# Altium integrated library Vishay Roederstein Electrolytic Snap-In Pins Capacitor.IntLib: 936 symbols (part 2 of 16)
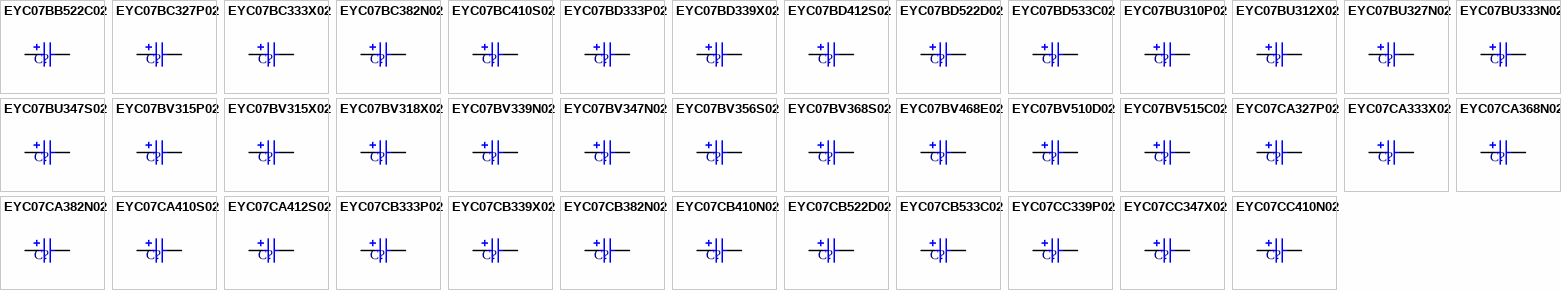
[diagram p24: symbols EYC07BB522C02 to EYC07CC410N02]

## EYC07BV356S02
designator C?
Aluminum Electrolytic Capacitor, Power Capacitor Style EYC, Snap-in 6mm Solder Pins: 560uF, 200V; PCB_Layout: Complies with Manufacturer's Recommendation.; DrillSize: Nominal, Complies with Manufacturer's Recommendation.; Published: 19-Mar-2004; DatasheetDocument: 26-Feb-2002; PackageReference: CAPPRS10-30X30; Publisher: Altium Limited; ComponentLink1Description: Manufacturer Link; ComponentLink1URL: http://www.vishay.com/; ComponentLink2Description: Datasheet; ComponentLink2URL: http://www.vishay.com/docs/25138/eyc.pdf; Value: 560uF
footprint CAPPRS10-30X30 (Capacitor, Electrolytic, Radial, Snap-In Pins; Body 30 x 30 mm (Dia.xH typ); Pin Spacing 10 mm (typ))
simulation model CAP (Capacitor)
signal-integrity model EYC07BV356S02
pins: 1, 2
1 alternate drawing of the same symbol

## EYC07BV368S02
designator C?
Aluminum Electrolytic Capacitor, Power Capacitor Style EYC, Snap-in 6mm Solder Pins: 680uF, 200V; PCB_Layout: Complies with Manufacturer's Recommendation.; DrillSize: Nominal, Complies with Manufacturer's Recommendation.; Published: 19-Mar-2004; DatasheetDocument: 26-Feb-2002; PackageReference: CAPPRS10-30X30; Publisher: Altium Limited; ComponentLink1Description: Manufacturer Link; ComponentLink1URL: http://www.vishay.com/; ComponentLink2Description: Datasheet; ComponentLink2URL: http://www.vishay.com/docs/25138/eyc.pdf; Value: 680uF
footprint CAPPRS10-30X30 (Capacitor, Electrolytic, Radial, Snap-In Pins; Body 30 x 30 mm (Dia.xH typ); Pin Spacing 10 mm (typ))
simulation model CAP (Capacitor)
signal-integrity model EYC07BV368S02
pins: 1, 2
1 alternate drawing of the same symbol

## EYC07BV468E02
designator C?
Aluminum Electrolytic Capacitor, Power Capacitor Style EYC, Snap-in 6mm Solder Pins: 6800uF, 25V; PCB_Layout: Complies with Manufacturer's Recommendation.; DrillSize: Nominal, Complies with Manufacturer's Recommendation.; Published: 19-Mar-2004; DatasheetDocument: 26-Feb-2002; PackageReference: CAPPRS10-30X30; Publisher: Altium Limited; ComponentLink1Description: Manufacturer Link; ComponentLink1URL: http://www.vishay.com/; ComponentLink2Description: Datasheet; ComponentLink2URL: http://www.vishay.com/docs/25138/eyc.pdf; Value: 6800uF
footprint CAPPRS10-30X30 (Capacitor, Electrolytic, Radial, Snap-In Pins; Body 30 x 30 mm (Dia.xH typ); Pin Spacing 10 mm (typ))
simulation model CAP (Capacitor)
signal-integrity model EYC07BV468E02
pins: 1, 2
1 alternate drawing of the same symbol

## EYC07BV510D02
designator C?
Aluminum Electrolytic Capacitor, Power Capacitor Style EYC, Snap-in 6mm Solder Pins: 10000uF, 16V; PCB_Layout: Complies with Manufacturer's Recommendation.; DrillSize: Nominal, Complies with Manufacturer's Recommendation.; Published: 19-Mar-2004; DatasheetDocument: 26-Feb-2002; PackageReference: CAPPRS10-30X30; Publisher: Altium Limited; ComponentLink1Description: Manufacturer Link; ComponentLink1URL: http://www.vishay.com/; ComponentLink2Description: Datasheet; ComponentLink2URL: http://www.vishay.com/docs/25138/eyc.pdf; Value: 10000uF
footprint CAPPRS10-30X30 (Capacitor, Electrolytic, Radial, Snap-In Pins; Body 30 x 30 mm (Dia.xH typ); Pin Spacing 10 mm (typ))
simulation model CAP (Capacitor)
signal-integrity model EYC07BV510D02
pins: 1, 2
1 alternate drawing of the same symbol

## EYC07BV515C02
designator C?
Aluminum Electrolytic Capacitor, Power Capacitor Style EYC, Snap-in 6mm Solder Pins: 15000uF, 10V; PCB_Layout: Complies with Manufacturer's Recommendation.; DrillSize: Nominal, Complies with Manufacturer's Recommendation.; Published: 19-Mar-2004; DatasheetDocument: 26-Feb-2002; PackageReference: CAPPRS10-30X30; Publisher: Altium Limited; ComponentLink1Description: Manufacturer Link; ComponentLink1URL: http://www.vishay.com/; ComponentLink2Description: Datasheet; ComponentLink2URL: http://www.vishay.com/docs/25138/eyc.pdf; Value: 15000uF
footprint CAPPRS10-30X30 (Capacitor, Electrolytic, Radial, Snap-In Pins; Body 30 x 30 mm (Dia.xH typ); Pin Spacing 10 mm (typ))
simulation model CAP (Capacitor)
signal-integrity model EYC07BV515C02
pins: 1, 2
1 alternate drawing of the same symbol

## EYC07CA327P02
designator C?
Aluminum Electrolytic Capacitor, Power Capacitor Style EYC, Snap-in 6mm Solder Pins: 270uF, 450V; PCB_Layout: Complies with Manufacturer's Recommendation.; DrillSize: Nominal, Complies with Manufacturer's Recommendation.; Published: 19-Mar-2004; DatasheetDocument: 26-Feb-2002; PackageReference: CAPPRS10-35X35; Publisher: Altium Limited; ComponentLink1Description: Manufacturer Link; ComponentLink1URL: http://www.vishay.com/; ComponentLink2Description: Datasheet; ComponentLink2URL: http://www.vishay.com/docs/25138/eyc.pdf; Value: 270uF
footprint CAPPRS10-35X35 (Capacitor, Electrolytic, Radial, Snap-In Pins; Body 35 x 35 mm (Dia.xH typ); Pin Spacing 10 mm (typ))
simulation model CAP (Capacitor)
signal-integrity model EYC07CA327P02
pins: 1, 2
1 alternate drawing of the same symbol

## EYC07CA333X02
designator C?
Aluminum Electrolytic Capacitor, Power Capacitor Style EYC, Snap-in 6mm Solder Pins: 330uF, 400V; PCB_Layout: Complies with Manufacturer's Recommendation.; DrillSize: Nominal, Complies with Manufacturer's Recommendation.; Published: 19-Mar-2004; DatasheetDocument: 26-Feb-2002; PackageReference: CAPPRS10-35X35; Publisher: Altium Limited; ComponentLink1Description: Manufacturer Link; ComponentLink1URL: http://www.vishay.com/; ComponentLink2Description: Datasheet; ComponentLink2URL: http://www.vishay.com/docs/25138/eyc.pdf; Value: 330uF
footprint CAPPRS10-35X35 (Capacitor, Electrolytic, Radial, Snap-In Pins; Body 35 x 35 mm (Dia.xH typ); Pin Spacing 10 mm (typ))
simulation model CAP (Capacitor)
signal-integrity model EYC07CA333X02
pins: 1, 2
1 alternate drawing of the same symbol

## EYC07CA368N02
designator C?
Aluminum Electrolytic Capacitor, Power Capacitor Style EYC, Snap-in 6mm Solder Pins: 680uF, 250V; PCB_Layout: Complies with Manufacturer's Recommendation.; DrillSize: Nominal, Complies with Manufacturer's Recommendation.; Published: 19-Mar-2004; DatasheetDocument: 26-Feb-2002; PackageReference: CAPPRS10-35X35; Publisher: Altium Limited; ComponentLink1Description: Manufacturer Link; ComponentLink1URL: http://www.vishay.com/; ComponentLink2Description: Datasheet; ComponentLink2URL: http://www.vishay.com/docs/25138/eyc.pdf; Value: 680uF
footprint CAPPRS10-35X35 (Capacitor, Electrolytic, Radial, Snap-In Pins; Body 35 x 35 mm (Dia.xH typ); Pin Spacing 10 mm (typ))
simulation model CAP (Capacitor)
signal-integrity model EYC07CA368N02
pins: 1, 2
1 alternate drawing of the same symbol

## EYC07CA382N02
designator C?
Aluminum Electrolytic Capacitor, Power Capacitor Style EYC, Snap-in 6mm Solder Pins: 820uF, 250V; PCB_Layout: Complies with Manufacturer's Recommendation.; DrillSize: Nominal, Complies with Manufacturer's Recommendation.; Published: 19-Mar-2004; DatasheetDocument: 26-Feb-2002; PackageReference: CAPPRS10-35X35; Publisher: Altium Limited; ComponentLink1Description: Manufacturer Link; ComponentLink1URL: http://www.vishay.com/; ComponentLink2Description: Datasheet; ComponentLink2URL: http://www.vishay.com/docs/25138/eyc.pdf; Value: 820uF
footprint CAPPRS10-35X35 (Capacitor, Electrolytic, Radial, Snap-In Pins; Body 35 x 35 mm (Dia.xH typ); Pin Spacing 10 mm (typ))
simulation model CAP (Capacitor)
signal-integrity model EYC07CA382N02
pins: 1, 2
1 alternate drawing of the same symbol

## EYC07CA410S02
designator C?
Aluminum Electrolytic Capacitor, Power Capacitor Style EYC, Snap-in 6mm Solder Pins: 1000uF, 200V; PCB_Layout: Complies with Manufacturer's Recommendation.; DrillSize: Nominal, Complies with Manufacturer's Recommendation.; Published: 19-Mar-2004; DatasheetDocument: 26-Feb-2002; PackageReference: CAPPRS10-35X35; Publisher: Altium Limited; ComponentLink1Description: Manufacturer Link; ComponentLink1URL: http://www.vishay.com/; ComponentLink2Description: Datasheet; ComponentLink2URL: http://www.vishay.com/docs/25138/eyc.pdf; Value: 1000uF
footprint CAPPRS10-35X35 (Capacitor, Electrolytic, Radial, Snap-In Pins; Body 35 x 35 mm (Dia.xH typ); Pin Spacing 10 mm (typ))
simulation model CAP (Capacitor)
signal-integrity model EYC07CA410S02
pins: 1, 2
1 alternate drawing of the same symbol

## EYC07CA412S02
designator C?
Aluminum Electrolytic Capacitor, Power Capacitor Style EYC, Snap-in 6mm Solder Pins: 1200uF, 200V; PCB_Layout: Complies with Manufacturer's Recommendation.; DrillSize: Nominal, Complies with Manufacturer's Recommendation.; Published: 19-Mar-2004; DatasheetDocument: 26-Feb-2002; PackageReference: CAPPRS10-35X35; Publisher: Altium Limited; ComponentLink1Description: Manufacturer Link; ComponentLink1URL: http://www.vishay.com/; ComponentLink2Description: Datasheet; ComponentLink2URL: http://www.vishay.com/docs/25138/eyc.pdf; Value: 1200uF
footprint CAPPRS10-35X35 (Capacitor, Electrolytic, Radial, Snap-In Pins; Body 35 x 35 mm (Dia.xH typ); Pin Spacing 10 mm (typ))
simulation model CAP (Capacitor)
signal-integrity model EYC07CA412S02
pins: 1, 2
1 alternate drawing of the same symbol

## EYC07CB333P02
designator C?
Aluminum Electrolytic Capacitor, Power Capacitor Style EYC, Snap-in 6mm Solder Pins: 330uF, 450V; PCB_Layout: Complies with Manufacturer's Recommendation.; DrillSize: Nominal, Complies with Manufacturer's Recommendation.; Published: 19-Mar-2004; DatasheetDocument: 26-Feb-2002; PackageReference: CAPPRS10-35X40; Publisher: Altium Limited; ComponentLink1Description: Manufacturer Link; ComponentLink1URL: http://www.vishay.com/; ComponentLink2Description: Datasheet; ComponentLink2URL: http://www.vishay.com/docs/25138/eyc.pdf; Value: 330uF
footprint CAPPRS10-35X40 (Capacitor, Electrolytic, Radial, Snap-In Pins; Body 35 x 40 mm (Dia.xH typ); Pin Spacing 10 mm (typ))
simulation model CAP (Capacitor)
signal-integrity model EYC07CB333P02
pins: 1, 2
1 alternate drawing of the same symbol

## EYC07CB339X02
designator C?
Aluminum Electrolytic Capacitor, Power Capacitor Style EYC, Snap-in 6mm Solder Pins: 390uF, 400V; PCB_Layout: Complies with Manufacturer's Recommendation.; DrillSize: Nominal, Complies with Manufacturer's Recommendation.; Published: 19-Mar-2004; DatasheetDocument: 26-Feb-2002; PackageReference: CAPPRS10-35X40; Publisher: Altium Limited; ComponentLink1Description: Manufacturer Link; ComponentLink1URL: http://www.vishay.com/; ComponentLink2Description: Datasheet; ComponentLink2URL: http://www.vishay.com/docs/25138/eyc.pdf; Value: 390uF
footprint CAPPRS10-35X40 (Capacitor, Electrolytic, Radial, Snap-In Pins; Body 35 x 40 mm (Dia.xH typ); Pin Spacing 10 mm (typ))
simulation model CAP (Capacitor)
signal-integrity model EYC07CB339X02
pins: 1, 2
1 alternate drawing of the same symbol

## EYC07CB382N02
designator C?
Aluminum Electrolytic Capacitor, Power Capacitor Style EYC, Snap-in 6mm Solder Pins: 820uF, 250V; PCB_Layout: Complies with Manufacturer's Recommendation.; DrillSize: Nominal, Complies with Manufacturer's Recommendation.; Published: 19-Mar-2004; DatasheetDocument: 26-Feb-2002; PackageReference: CAPPRS10-35X40; Publisher: Altium Limited; ComponentLink1Description: Manufacturer Link; ComponentLink1URL: http://www.vishay.com/; ComponentLink2Description: Datasheet; ComponentLink2URL: http://www.vishay.com/docs/25138/eyc.pdf; Value: 820uF
footprint CAPPRS10-35X40 (Capacitor, Electrolytic, Radial, Snap-In Pins; Body 35 x 40 mm (Dia.xH typ); Pin Spacing 10 mm (typ))
simulation model CAP (Capacitor)
signal-integrity model EYC07CB382N02
pins: 1, 2
1 alternate drawing of the same symbol

## EYC07CB410N02
designator C?
Aluminum Electrolytic Capacitor, Power Capacitor Style EYC, Snap-in 6mm Solder Pins: 1000uF, 250V; PCB_Layout: Complies with Manufacturer's Recommendation.; DrillSize: Nominal, Complies with Manufacturer's Recommendation.; Published: 19-Mar-2004; DatasheetDocument: 26-Feb-2002; PackageReference: CAPPRS10-35X40; Publisher: Altium Limited; ComponentLink1Description: Manufacturer Link; ComponentLink1URL: http://www.vishay.com/; ComponentLink2Description: Datasheet; ComponentLink2URL: http://www.vishay.com/docs/25138/eyc.pdf; Value: 1000uF
footprint CAPPRS10-35X40 (Capacitor, Electrolytic, Radial, Snap-In Pins; Body 35 x 40 mm (Dia.xH typ); Pin Spacing 10 mm (typ))
simulation model CAP (Capacitor)
signal-integrity model EYC07CB410N02
pins: 1, 2
1 alternate drawing of the same symbol

## EYC07CB522D02
designator C?
Aluminum Electrolytic Capacitor, Power Capacitor Style EYC, Snap-in 6mm Solder Pins: 22000uF, 16V; PCB_Layout: Complies with Manufacturer's Recommendation.; DrillSize: Nominal, Complies with Manufacturer's Recommendation.; Published: 19-Mar-2004; DatasheetDocument: 26-Feb-2002; PackageReference: CAPPRS10-35X40; Publisher: Altium Limited; ComponentLink1Description: Manufacturer Link; ComponentLink1URL: http://www.vishay.com/; ComponentLink2Description: Datasheet; ComponentLink2URL: http://www.vishay.com/docs/25138/eyc.pdf; Value: 22000uF
footprint CAPPRS10-35X40 (Capacitor, Electrolytic, Radial, Snap-In Pins; Body 35 x 40 mm (Dia.xH typ); Pin Spacing 10 mm (typ))
simulation model CAP (Capacitor)
signal-integrity model EYC07CB522D02
pins: 1, 2
1 alternate drawing of the same symbol

## EYC07CB533C02
designator C?
Aluminum Electrolytic Capacitor, Power Capacitor Style EYC, Snap-in 6mm Solder Pins: 33000uF, 10V; PCB_Layout: Complies with Manufacturer's Recommendation.; DrillSize: Nominal, Complies with Manufacturer's Recommendation.; Published: 19-Mar-2004; DatasheetDocument: 26-Feb-2002; PackageReference: CAPPRS10-35X40; Publisher: Altium Limited; ComponentLink1Description: Manufacturer Link; ComponentLink1URL: http://www.vishay.com/; ComponentLink2Description: Datasheet; ComponentLink2URL: http://www.vishay.com/docs/25138/eyc.pdf; Value: 33000uF
footprint CAPPRS10-35X40 (Capacitor, Electrolytic, Radial, Snap-In Pins; Body 35 x 40 mm (Dia.xH typ); Pin Spacing 10 mm (typ))
simulation model CAP (Capacitor)
signal-integrity model EYC07CB533C02
pins: 1, 2
1 alternate drawing of the same symbol

## EYC07CC339P02
designator C?
Aluminum Electrolytic Capacitor, Power Capacitor Style EYC, Snap-in 6mm Solder Pins: 390uF, 450V; PCB_Layout: Complies with Manufacturer's Recommendation.; DrillSize: Nominal, Complies with Manufacturer's Recommendation.; Published: 19-Mar-2004; DatasheetDocument: 26-Feb-2002; PackageReference: CAPPRS10-35X45; Publisher: Altium Limited; ComponentLink1Description: Manufacturer Link; ComponentLink1URL: http://www.vishay.com/; ComponentLink2Description: Datasheet; ComponentLink2URL: http://www.vishay.com/docs/25138/eyc.pdf; Value: 390uF
footprint CAPPRS10-35X45 (Capacitor, Electrolytic, Radial, Snap-In Pins; Body 35 x 45 mm (Dia.xH typ); Pin Spacing 10 mm (typ))
simulation model CAP (Capacitor)
signal-integrity model EYC07CC339P02
pins: 1, 2
1 alternate drawing of the same symbol

## EYC07CC347X02
designator C?
Aluminum Electrolytic Capacitor, Power Capacitor Style EYC, Snap-in 6mm Solder Pins: 470uF, 400V; PCB_Layout: Complies with Manufacturer's Recommendation.; DrillSize: Nominal, Complies with Manufacturer's Recommendation.; Published: 19-Mar-2004; DatasheetDocument: 26-Feb-2002; PackageReference: CAPPRS10-35X45; Publisher: Altium Limited; ComponentLink1Description: Manufacturer Link; ComponentLink1URL: http://www.vishay.com/; ComponentLink2Description: Datasheet; ComponentLink2URL: http://www.vishay.com/docs/25138/eyc.pdf; Value: 470uF
footprint CAPPRS10-35X45 (Capacitor, Electrolytic, Radial, Snap-In Pins; Body 35 x 45 mm (Dia.xH typ); Pin Spacing 10 mm (typ))
simulation model CAP (Capacitor)
signal-integrity model EYC07CC347X02
pins: 1, 2
1 alternate drawing of the same symbol

## EYC07CC410N02
designator C?
Aluminum Electrolytic Capacitor, Power Capacitor Style EYC, Snap-in 6mm Solder Pins: 1000uF, 250V; PCB_Layout: Complies with Manufacturer's Recommendation.; DrillSize: Nominal, Complies with Manufacturer's Recommendation.; Published: 19-Mar-2004; DatasheetDocument: 26-Feb-2002; PackageReference: CAPPRS10-35X45; Publisher: Altium Limited; ComponentLink1Description: Manufacturer Link; ComponentLink1URL: http://www.vishay.com/; ComponentLink2Description: Datasheet; ComponentLink2URL: http://www.vishay.com/docs/25138/eyc.pdf; Value: 1000uF
footprint CAPPRS10-35X45 (Capacitor, Electrolytic, Radial, Snap-In Pins; Body 35 x 45 mm (Dia.xH typ); Pin Spacing 10 mm (typ))
simulation model CAP (Capacitor)
signal-integrity model EYC07CC410N02
pins: 1, 2
1 alternate drawing of the same symbol

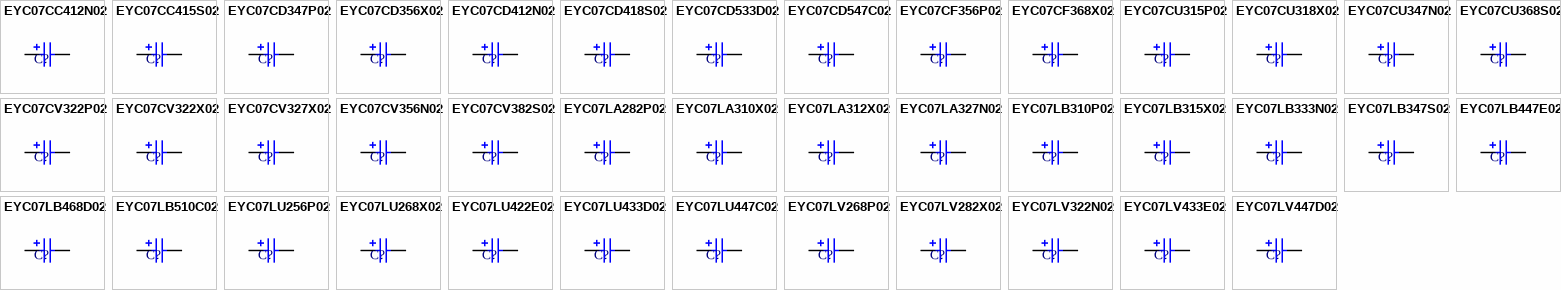
[diagram p2: symbols EYC07CC412N02 to EYC07LV447D02]

## EYC07CC412N02
designator C?
Aluminum Electrolytic Capacitor, Power Capacitor Style EYC, Snap-in 6mm Solder Pins: 1200uF, 250V; PCB_Layout: Complies with Manufacturer's Recommendation.; DrillSize: Nominal, Complies with Manufacturer's Recommendation.; Published: 19-Mar-2004; DatasheetDocument: 26-Feb-2002; PackageReference: CAPPRS10-35X45; Publisher: Altium Limited; ComponentLink1Description: Manufacturer Link; ComponentLink1URL: http://www.vishay.com/; ComponentLink2Description: Datasheet; ComponentLink2URL: http://www.vishay.com/docs/25138/eyc.pdf; Value: 1200uF
footprint CAPPRS10-35X45 (Capacitor, Electrolytic, Radial, Snap-In Pins; Body 35 x 45 mm (Dia.xH typ); Pin Spacing 10 mm (typ))
simulation model CAP (Capacitor)
signal-integrity model EYC07CC412N02
pins: 1, 2
1 alternate drawing of the same symbol

## EYC07CC415S02
designator C?
Aluminum Electrolytic Capacitor, Power Capacitor Style EYC, Snap-in 6mm Solder Pins: 1500uF, 200V; PCB_Layout: Complies with Manufacturer's Recommendation.; DrillSize: Nominal, Complies with Manufacturer's Recommendation.; Published: 19-Mar-2004; DatasheetDocument: 26-Feb-2002; PackageReference: CAPPRS10-35X45; Publisher: Altium Limited; ComponentLink1Description: Manufacturer Link; ComponentLink1URL: http://www.vishay.com/; ComponentLink2Description: Datasheet; ComponentLink2URL: http://www.vishay.com/docs/25138/eyc.pdf; Value: 1500uF
footprint CAPPRS10-35X45 (Capacitor, Electrolytic, Radial, Snap-In Pins; Body 35 x 45 mm (Dia.xH typ); Pin Spacing 10 mm (typ))
simulation model CAP (Capacitor)
signal-integrity model EYC07CC415S02
pins: 1, 2
1 alternate drawing of the same symbol

## EYC07CD347P02
designator C?
Aluminum Electrolytic Capacitor, Power Capacitor Style EYC, Snap-in 6mm Solder Pins: 470uF, 450V; PCB_Layout: Complies with Manufacturer's Recommendation.; DrillSize: Nominal, Complies with Manufacturer's Recommendation.; Published: 19-Mar-2004; DatasheetDocument: 26-Feb-2002; PackageReference: CAPPRS10-35X50; Publisher: Altium Limited; ComponentLink1Description: Manufacturer Link; ComponentLink1URL: http://www.vishay.com/; ComponentLink2Description: Datasheet; ComponentLink2URL: http://www.vishay.com/docs/25138/eyc.pdf; Value: 470uF
footprint CAPPRS10-35X50 (Capacitor, Electrolytic, Radial, Snap-In Pins; Body 35 x 50 mm (Dia.xH typ); Pin Spacing 10 mm (typ))
simulation model CAP (Capacitor)
signal-integrity model EYC07CD347P02
pins: 1, 2
1 alternate drawing of the same symbol

## EYC07CD356X02
designator C?
Aluminum Electrolytic Capacitor, Power Capacitor Style EYC, Snap-in 6mm Solder Pins: 560uF, 400V; PCB_Layout: Complies with Manufacturer's Recommendation.; DrillSize: Nominal, Complies with Manufacturer's Recommendation.; Published: 19-Mar-2004; DatasheetDocument: 26-Feb-2002; PackageReference: CAPPRS10-35X50; Publisher: Altium Limited; ComponentLink1Description: Manufacturer Link; ComponentLink1URL: http://www.vishay.com/; ComponentLink2Description: Datasheet; ComponentLink2URL: http://www.vishay.com/docs/25138/eyc.pdf; Value: 560uF
footprint CAPPRS10-35X50 (Capacitor, Electrolytic, Radial, Snap-In Pins; Body 35 x 50 mm (Dia.xH typ); Pin Spacing 10 mm (typ))
simulation model CAP (Capacitor)
signal-integrity model EYC07CD356X02
pins: 1, 2
1 alternate drawing of the same symbol

## EYC07CD412N02
designator C?
Aluminum Electrolytic Capacitor, Power Capacitor Style EYC, Snap-in 6mm Solder Pins: 1200uF, 250V; PCB_Layout: Complies with Manufacturer's Recommendation.; DrillSize: Nominal, Complies with Manufacturer's Recommendation.; Published: 19-Mar-2004; DatasheetDocument: 26-Feb-2002; PackageReference: CAPPRS10-35X50; Publisher: Altium Limited; ComponentLink1Description: Manufacturer Link; ComponentLink1URL: http://www.vishay.com/; ComponentLink2Description: Datasheet; ComponentLink2URL: http://www.vishay.com/docs/25138/eyc.pdf; Value: 1200uF
footprint CAPPRS10-35X50 (Capacitor, Electrolytic, Radial, Snap-In Pins; Body 35 x 50 mm (Dia.xH typ); Pin Spacing 10 mm (typ))
simulation model CAP (Capacitor)
signal-integrity model EYC07CD412N02
pins: 1, 2
1 alternate drawing of the same symbol

## EYC07CD418S02
designator C?
Aluminum Electrolytic Capacitor, Power Capacitor Style EYC, Snap-in 6mm Solder Pins: 1800uF, 200V; PCB_Layout: Complies with Manufacturer's Recommendation.; DrillSize: Nominal, Complies with Manufacturer's Recommendation.; Published: 19-Mar-2004; DatasheetDocument: 26-Feb-2002; PackageReference: CAPPRS10-35X50; Publisher: Altium Limited; ComponentLink1Description: Manufacturer Link; ComponentLink1URL: http://www.vishay.com/; ComponentLink2Description: Datasheet; ComponentLink2URL: http://www.vishay.com/docs/25138/eyc.pdf; Value: 1800uF
footprint CAPPRS10-35X50 (Capacitor, Electrolytic, Radial, Snap-In Pins; Body 35 x 50 mm (Dia.xH typ); Pin Spacing 10 mm (typ))
simulation model CAP (Capacitor)
signal-integrity model EYC07CD418S02
pins: 1, 2
1 alternate drawing of the same symbol

## EYC07CD533D02
designator C?
Aluminum Electrolytic Capacitor, Power Capacitor Style EYC, Snap-in 6mm Solder Pins: 33000uF, 16V; PCB_Layout: Complies with Manufacturer's Recommendation.; DrillSize: Nominal, Complies with Manufacturer's Recommendation.; Published: 19-Mar-2004; DatasheetDocument: 26-Feb-2002; PackageReference: CAPPRS10-35X50; Publisher: Altium Limited; ComponentLink1Description: Manufacturer Link; ComponentLink1URL: http://www.vishay.com/; ComponentLink2Description: Datasheet; ComponentLink2URL: http://www.vishay.com/docs/25138/eyc.pdf; Value: 33000uF
footprint CAPPRS10-35X50 (Capacitor, Electrolytic, Radial, Snap-In Pins; Body 35 x 50 mm (Dia.xH typ); Pin Spacing 10 mm (typ))
simulation model CAP (Capacitor)
signal-integrity model EYC07CD533D02
pins: 1, 2
1 alternate drawing of the same symbol

## EYC07CD547C02
designator C?
Aluminum Electrolytic Capacitor, Power Capacitor Style EYC, Snap-in 6mm Solder Pins: 47000uF, 10V; PCB_Layout: Complies with Manufacturer's Recommendation.; DrillSize: Nominal, Complies with Manufacturer's Recommendation.; Published: 19-Mar-2004; DatasheetDocument: 26-Feb-2002; PackageReference: CAPPRS10-35X50; Publisher: Altium Limited; ComponentLink1Description: Manufacturer Link; ComponentLink1URL: http://www.vishay.com/; ComponentLink2Description: Datasheet; ComponentLink2URL: http://www.vishay.com/docs/25138/eyc.pdf; Value: 47000uF
footprint CAPPRS10-35X50 (Capacitor, Electrolytic, Radial, Snap-In Pins; Body 35 x 50 mm (Dia.xH typ); Pin Spacing 10 mm (typ))
simulation model CAP (Capacitor)
signal-integrity model EYC07CD547C02
pins: 1, 2
1 alternate drawing of the same symbol

## EYC07CF356P02
designator C?
Aluminum Electrolytic Capacitor, Power Capacitor Style EYC, Snap-in 6mm Solder Pins: 560uF, 450V; PCB_Layout: Complies with Manufacturer's Recommendation.; DrillSize: Nominal, Complies with Manufacturer's Recommendation.; Published: 19-Mar-2004; DatasheetDocument: 26-Feb-2002; PackageReference: CAPPRS10-35X60; Publisher: Altium Limited; ComponentLink1Description: Manufacturer Link; ComponentLink1URL: http://www.vishay.com/; ComponentLink2Description: Datasheet; ComponentLink2URL: http://www.vishay.com/docs/25138/eyc.pdf; Value: 560uF
footprint CAPPRS10-35X60 (Capacitor, Electrolytic, Radial, Snap-In Pins; Body 35 x 60 mm (Dia.xH typ); Pin Spacing 10 mm (typ))
simulation model CAP (Capacitor)
signal-integrity model EYC07CF356P02
pins: 1, 2
1 alternate drawing of the same symbol

## EYC07CF368X02
designator C?
Aluminum Electrolytic Capacitor, Power Capacitor Style EYC, Snap-in 6mm Solder Pins: 680uF, 400V; PCB_Layout: Complies with Manufacturer's Recommendation.; DrillSize: Nominal, Complies with Manufacturer's Recommendation.; Published: 19-Mar-2004; DatasheetDocument: 26-Feb-2002; PackageReference: CAPPRS10-35X60; Publisher: Altium Limited; ComponentLink1Description: Manufacturer Link; ComponentLink1URL: http://www.vishay.com/; ComponentLink2Description: Datasheet; ComponentLink2URL: http://www.vishay.com/docs/25138/eyc.pdf; Value: 680uF
footprint CAPPRS10-35X60 (Capacitor, Electrolytic, Radial, Snap-In Pins; Body 35 x 60 mm (Dia.xH typ); Pin Spacing 10 mm (typ))
simulation model CAP (Capacitor)
signal-integrity model EYC07CF368X02
pins: 1, 2
1 alternate drawing of the same symbol

## EYC07CU315P02
designator C?
Aluminum Electrolytic Capacitor, Power Capacitor Style EYC, Snap-in 6mm Solder Pins: 150uF, 450V; PCB_Layout: Complies with Manufacturer's Recommendation.; DrillSize: Nominal, Complies with Manufacturer's Recommendation.; Published: 19-Mar-2004; DatasheetDocument: 26-Feb-2002; PackageReference: CAPPRS10-35X25; Publisher: Altium Limited; ComponentLink1Description: Manufacturer Link; ComponentLink1URL: http://www.vishay.com/; ComponentLink2Description: Datasheet; ComponentLink2URL: http://www.vishay.com/docs/25138/eyc.pdf; Value: 150uF
footprint CAPPRS10-35X25 (Capacitor, Electrolytic, Radial, Snap-In Pins; Body 35 x 25 mm (Dia.xH typ); Pin Spacing 10 mm (typ))
simulation model CAP (Capacitor)
signal-integrity model EYC07CU315P02
pins: 1, 2
1 alternate drawing of the same symbol

## EYC07CU318X02
designator C?
Aluminum Electrolytic Capacitor, Power Capacitor Style EYC, Snap-in 6mm Solder Pins: 180uF, 400V; PCB_Layout: Complies with Manufacturer's Recommendation.; DrillSize: Nominal, Complies with Manufacturer's Recommendation.; Published: 19-Mar-2004; DatasheetDocument: 26-Feb-2002; PackageReference: CAPPRS10-35X25; Publisher: Altium Limited; ComponentLink1Description: Manufacturer Link; ComponentLink1URL: http://www.vishay.com/; ComponentLink2Description: Datasheet; ComponentLink2URL: http://www.vishay.com/docs/25138/eyc.pdf; Value: 180uF
footprint CAPPRS10-35X25 (Capacitor, Electrolytic, Radial, Snap-In Pins; Body 35 x 25 mm (Dia.xH typ); Pin Spacing 10 mm (typ))
simulation model CAP (Capacitor)
signal-integrity model EYC07CU318X02
pins: 1, 2
1 alternate drawing of the same symbol

## EYC07CU347N02
designator C?
Aluminum Electrolytic Capacitor, Power Capacitor Style EYC, Snap-in 6mm Solder Pins: 470uF, 250V; PCB_Layout: Complies with Manufacturer's Recommendation.; DrillSize: Nominal, Complies with Manufacturer's Recommendation.; Published: 19-Mar-2004; DatasheetDocument: 26-Feb-2002; PackageReference: CAPPRS10-35X25; Publisher: Altium Limited; ComponentLink1Description: Manufacturer Link; ComponentLink1URL: http://www.vishay.com/; ComponentLink2Description: Datasheet; ComponentLink2URL: http://www.vishay.com/docs/25138/eyc.pdf; Value: 470uF
footprint CAPPRS10-35X25 (Capacitor, Electrolytic, Radial, Snap-In Pins; Body 35 x 25 mm (Dia.xH typ); Pin Spacing 10 mm (typ))
simulation model CAP (Capacitor)
signal-integrity model EYC07CU347N02
pins: 1, 2
1 alternate drawing of the same symbol

## EYC07CU368S02
designator C?
Aluminum Electrolytic Capacitor, Power Capacitor Style EYC, Snap-in 6mm Solder Pins: 680uF, 200V; PCB_Layout: Complies with Manufacturer's Recommendation.; DrillSize: Nominal, Complies with Manufacturer's Recommendation.; Published: 19-Mar-2004; DatasheetDocument: 26-Feb-2002; PackageReference: CAPPRS10-35X25; Publisher: Altium Limited; ComponentLink1Description: Manufacturer Link; ComponentLink1URL: http://www.vishay.com/; ComponentLink2Description: Datasheet; ComponentLink2URL: http://www.vishay.com/docs/25138/eyc.pdf; Value: 680uF
footprint CAPPRS10-35X25 (Capacitor, Electrolytic, Radial, Snap-In Pins; Body 35 x 25 mm (Dia.xH typ); Pin Spacing 10 mm (typ))
simulation model CAP (Capacitor)
signal-integrity model EYC07CU368S02
pins: 1, 2
1 alternate drawing of the same symbol

## EYC07CV322P02
designator C?
Aluminum Electrolytic Capacitor, Power Capacitor Style EYC, Snap-in 6mm Solder Pins: 220uF, 450V; PCB_Layout: Complies with Manufacturer's Recommendation.; DrillSize: Nominal, Complies with Manufacturer's Recommendation.; Published: 19-Mar-2004; DatasheetDocument: 26-Feb-2002; PackageReference: CAPPRS10-35X30; Publisher: Altium Limited; ComponentLink1Description: Manufacturer Link; ComponentLink1URL: http://www.vishay.com/; ComponentLink2Description: Datasheet; ComponentLink2URL: http://www.vishay.com/docs/25138/eyc.pdf; Value: 220uF
footprint CAPPRS10-35X30 (Capacitor, Electrolytic, Radial, Snap-In Pins; Body 35 x 30 mm (Dia.xH typ); Pin Spacing 10 mm (typ))
simulation model CAP (Capacitor)
signal-integrity model EYC07CV322P02
pins: 1, 2
1 alternate drawing of the same symbol

## EYC07CV322X02
designator C?
Aluminum Electrolytic Capacitor, Power Capacitor Style EYC, Snap-in 6mm Solder Pins: 220uF, 400V; PCB_Layout: Complies with Manufacturer's Recommendation.; DrillSize: Nominal, Complies with Manufacturer's Recommendation.; Published: 19-Mar-2004; DatasheetDocument: 26-Feb-2002; PackageReference: CAPPRS10-35X30; Publisher: Altium Limited; ComponentLink1Description: Manufacturer Link; ComponentLink1URL: http://www.vishay.com/; ComponentLink2Description: Datasheet; ComponentLink2URL: http://www.vishay.com/docs/25138/eyc.pdf; Value: 220uF
footprint CAPPRS10-35X30 (Capacitor, Electrolytic, Radial, Snap-In Pins; Body 35 x 30 mm (Dia.xH typ); Pin Spacing 10 mm (typ))
simulation model CAP (Capacitor)
signal-integrity model EYC07CV322X02
pins: 1, 2
1 alternate drawing of the same symbol

## EYC07CV327X02
designator C?
Aluminum Electrolytic Capacitor, Power Capacitor Style EYC, Snap-in 6mm Solder Pins: 270uF, 400V; PCB_Layout: Complies with Manufacturer's Recommendation.; DrillSize: Nominal, Complies with Manufacturer's Recommendation.; Published: 19-Mar-2004; DatasheetDocument: 26-Feb-2002; PackageReference: CAPPRS10-35X30; Publisher: Altium Limited; ComponentLink1Description: Manufacturer Link; ComponentLink1URL: http://www.vishay.com/; ComponentLink2Description: Datasheet; ComponentLink2URL: http://www.vishay.com/docs/25138/eyc.pdf; Value: 270uF
footprint CAPPRS10-35X30 (Capacitor, Electrolytic, Radial, Snap-In Pins; Body 35 x 30 mm (Dia.xH typ); Pin Spacing 10 mm (typ))
simulation model CAP (Capacitor)
signal-integrity model EYC07CV327X02
pins: 1, 2
1 alternate drawing of the same symbol

## EYC07CV356N02
designator C?
Aluminum Electrolytic Capacitor, Power Capacitor Style EYC, Snap-in 6mm Solder Pins: 560uF, 250V; PCB_Layout: Complies with Manufacturer's Recommendation.; DrillSize: Nominal, Complies with Manufacturer's Recommendation.; Published: 19-Mar-2004; DatasheetDocument: 26-Feb-2002; PackageReference: CAPPRS10-35X30; Publisher: Altium Limited; ComponentLink1Description: Manufacturer Link; ComponentLink1URL: http://www.vishay.com/; ComponentLink2Description: Datasheet; ComponentLink2URL: http://www.vishay.com/docs/25138/eyc.pdf; Value: 560uF
footprint CAPPRS10-35X30 (Capacitor, Electrolytic, Radial, Snap-In Pins; Body 35 x 30 mm (Dia.xH typ); Pin Spacing 10 mm (typ))
simulation model CAP (Capacitor)
signal-integrity model EYC07CV356N02
pins: 1, 2
1 alternate drawing of the same symbol

## EYC07CV382S02
designator C?
Aluminum Electrolytic Capacitor, Power Capacitor Style EYC, Snap-in 6mm Solder Pins: 820uF, 200V; PCB_Layout: Complies with Manufacturer's Recommendation.; DrillSize: Nominal, Complies with Manufacturer's Recommendation.; Published: 19-Mar-2004; DatasheetDocument: 26-Feb-2002; PackageReference: CAPPRS10-35X30; Publisher: Altium Limited; ComponentLink1Description: Manufacturer Link; ComponentLink1URL: http://www.vishay.com/; ComponentLink2Description: Datasheet; ComponentLink2URL: http://www.vishay.com/docs/25138/eyc.pdf; Value: 820uF
footprint CAPPRS10-35X30 (Capacitor, Electrolytic, Radial, Snap-In Pins; Body 35 x 30 mm (Dia.xH typ); Pin Spacing 10 mm (typ))
simulation model CAP (Capacitor)
signal-integrity model EYC07CV382S02
pins: 1, 2
1 alternate drawing of the same symbol

## EYC07LA282P02
designator C?
Aluminum Electrolytic Capacitor, Power Capacitor Style EYC, Snap-in 6mm Solder Pins: 82uF, 450V; PCB_Layout: Complies with Manufacturer's Recommendation.; DrillSize: Nominal, Complies with Manufacturer's Recommendation.; Published: 19-Mar-2004; DatasheetDocument: 26-Feb-2002; PackageReference: CAPPRS10-22X35; Publisher: Altium Limited; ComponentLink1Description: Manufacturer Link; ComponentLink1URL: http://www.vishay.com/; ComponentLink2Description: Datasheet; ComponentLink2URL: http://www.vishay.com/docs/25138/eyc.pdf; Value: 82uF
footprint CAPPRS10-22X35 (Capacitor, Electrolytic, Radial, Snap-In Pins; Body 22 x 35 mm (Dia.xH typ); Pin Spacing 10 mm (typ))
simulation model CAP (Capacitor)
signal-integrity model EYC07LA282P02
pins: 1, 2
1 alternate drawing of the same symbol

## EYC07LA310X02
designator C?
Aluminum Electrolytic Capacitor, Power Capacitor Style EYC, Snap-in 6mm Solder Pins: 100uF, 400V; PCB_Layout: Complies with Manufacturer's Recommendation.; DrillSize: Nominal, Complies with Manufacturer's Recommendation.; Published: 19-Mar-2004; DatasheetDocument: 26-Feb-2002; PackageReference: CAPPRS10-22X35; Publisher: Altium Limited; ComponentLink1Description: Manufacturer Link; ComponentLink1URL: http://www.vishay.com/; ComponentLink2Description: Datasheet; ComponentLink2URL: http://www.vishay.com/docs/25138/eyc.pdf; Value: 100uF
footprint CAPPRS10-22X35 (Capacitor, Electrolytic, Radial, Snap-In Pins; Body 22 x 35 mm (Dia.xH typ); Pin Spacing 10 mm (typ))
simulation model CAP (Capacitor)
signal-integrity model EYC07LA310X02
pins: 1, 2
1 alternate drawing of the same symbol

## EYC07LA312X02
designator C?
Aluminum Electrolytic Capacitor, Power Capacitor Style EYC, Snap-in 6mm Solder Pins: 120uF, 400V; PCB_Layout: Complies with Manufacturer's Recommendation.; DrillSize: Nominal, Complies with Manufacturer's Recommendation.; Published: 19-Mar-2004; DatasheetDocument: 26-Feb-2002; PackageReference: CAPPRS10-22X35; Publisher: Altium Limited; ComponentLink1Description: Manufacturer Link; ComponentLink1URL: http://www.vishay.com/; ComponentLink2Description: Datasheet; ComponentLink2URL: http://www.vishay.com/docs/25138/eyc.pdf; Value: 120uF
footprint CAPPRS10-22X35 (Capacitor, Electrolytic, Radial, Snap-In Pins; Body 22 x 35 mm (Dia.xH typ); Pin Spacing 10 mm (typ))
simulation model CAP (Capacitor)
signal-integrity model EYC07LA312X02
pins: 1, 2
1 alternate drawing of the same symbol

## EYC07LA327N02
designator C?
Aluminum Electrolytic Capacitor, Power Capacitor Style EYC, Snap-in 6mm Solder Pins: 270uF, 250V; PCB_Layout: Complies with Manufacturer's Recommendation.; DrillSize: Nominal, Complies with Manufacturer's Recommendation.; Published: 19-Mar-2004; DatasheetDocument: 26-Feb-2002; PackageReference: CAPPRS10-22X35; Publisher: Altium Limited; ComponentLink1Description: Manufacturer Link; ComponentLink1URL: http://www.vishay.com/; ComponentLink2Description: Datasheet; ComponentLink2URL: http://www.vishay.com/docs/25138/eyc.pdf; Value: 270uF
footprint CAPPRS10-22X35 (Capacitor, Electrolytic, Radial, Snap-In Pins; Body 22 x 35 mm (Dia.xH typ); Pin Spacing 10 mm (typ))
simulation model CAP (Capacitor)
signal-integrity model EYC07LA327N02
pins: 1, 2
1 alternate drawing of the same symbol

## EYC07LB310P02
designator C?
Aluminum Electrolytic Capacitor, Power Capacitor Style EYC, Snap-in 6mm Solder Pins: 100uF, 450V; PCB_Layout: Complies with Manufacturer's Recommendation.; DrillSize: Nominal, Complies with Manufacturer's Recommendation.; Published: 19-Mar-2004; DatasheetDocument: 26-Feb-2002; PackageReference: CAPPRS10-22X40; Publisher: Altium Limited; ComponentLink1Description: Manufacturer Link; ComponentLink1URL: http://www.vishay.com/; ComponentLink2Description: Datasheet; ComponentLink2URL: http://www.vishay.com/docs/25138/eyc.pdf; Value: 100uF
footprint CAPPRS10-22X40 (Capacitor, Electrolytic, Radial, Snap-In Pins; Body 22 x 40 mm (Dia.xH typ); Pin Spacing 10 mm (typ))
simulation model CAP (Capacitor)
signal-integrity model EYC07LB310P02
pins: 1, 2
1 alternate drawing of the same symbol

## EYC07LB315X02
designator C?
Aluminum Electrolytic Capacitor, Power Capacitor Style EYC, Snap-in 6mm Solder Pins: 150uF, 400V; PCB_Layout: Complies with Manufacturer's Recommendation.; DrillSize: Nominal, Complies with Manufacturer's Recommendation.; Published: 19-Mar-2004; DatasheetDocument: 26-Feb-2002; PackageReference: CAPPRS10-22X40; Publisher: Altium Limited; ComponentLink1Description: Manufacturer Link; ComponentLink1URL: http://www.vishay.com/; ComponentLink2Description: Datasheet; ComponentLink2URL: http://www.vishay.com/docs/25138/eyc.pdf; Value: 150uF
footprint CAPPRS10-22X40 (Capacitor, Electrolytic, Radial, Snap-In Pins; Body 22 x 40 mm (Dia.xH typ); Pin Spacing 10 mm (typ))
simulation model CAP (Capacitor)
signal-integrity model EYC07LB315X02
pins: 1, 2
1 alternate drawing of the same symbol

## EYC07LB333N02
designator C?
Aluminum Electrolytic Capacitor, Power Capacitor Style EYC, Snap-in 6mm Solder Pins: 330uF, 250V; PCB_Layout: Complies with Manufacturer's Recommendation.; DrillSize: Nominal, Complies with Manufacturer's Recommendation.; Published: 19-Mar-2004; DatasheetDocument: 26-Feb-2002; PackageReference: CAPPRS10-22X40; Publisher: Altium Limited; ComponentLink1Description: Manufacturer Link; ComponentLink1URL: http://www.vishay.com/; ComponentLink2Description: Datasheet; ComponentLink2URL: http://www.vishay.com/docs/25138/eyc.pdf; Value: 330uF
footprint CAPPRS10-22X40 (Capacitor, Electrolytic, Radial, Snap-In Pins; Body 22 x 40 mm (Dia.xH typ); Pin Spacing 10 mm (typ))
simulation model CAP (Capacitor)
signal-integrity model EYC07LB333N02
pins: 1, 2
1 alternate drawing of the same symbol

## EYC07LB347S02
designator C?
Aluminum Electrolytic Capacitor, Power Capacitor Style EYC, Snap-in 6mm Solder Pins: 470uF, 200V; PCB_Layout: Complies with Manufacturer's Recommendation.; DrillSize: Nominal, Complies with Manufacturer's Recommendation.; Published: 19-Mar-2004; DatasheetDocument: 26-Feb-2002; PackageReference: CAPPRS10-22X40; Publisher: Altium Limited; ComponentLink1Description: Manufacturer Link; ComponentLink1URL: http://www.vishay.com/; ComponentLink2Description: Datasheet; ComponentLink2URL: http://www.vishay.com/docs/25138/eyc.pdf; Value: 470uF
footprint CAPPRS10-22X40 (Capacitor, Electrolytic, Radial, Snap-In Pins; Body 22 x 40 mm (Dia.xH typ); Pin Spacing 10 mm (typ))
simulation model CAP (Capacitor)
signal-integrity model EYC07LB347S02
pins: 1, 2
1 alternate drawing of the same symbol

## EYC07LB447E02
designator C?
Aluminum Electrolytic Capacitor, Power Capacitor Style EYC, Snap-in 6mm Solder Pins: 4700uF, 25V; PCB_Layout: Complies with Manufacturer's Recommendation.; DrillSize: Nominal, Complies with Manufacturer's Recommendation.; Published: 19-Mar-2004; DatasheetDocument: 26-Feb-2002; PackageReference: CAPPRS10-22X40; Publisher: Altium Limited; ComponentLink1Description: Manufacturer Link; ComponentLink1URL: http://www.vishay.com/; ComponentLink2Description: Datasheet; ComponentLink2URL: http://www.vishay.com/docs/25138/eyc.pdf; Value: 4700uF
footprint CAPPRS10-22X40 (Capacitor, Electrolytic, Radial, Snap-In Pins; Body 22 x 40 mm (Dia.xH typ); Pin Spacing 10 mm (typ))
simulation model CAP (Capacitor)
signal-integrity model EYC07LB447E02
pins: 1, 2
1 alternate drawing of the same symbol

## EYC07LB468D02
designator C?
Aluminum Electrolytic Capacitor, Power Capacitor Style EYC, Snap-in 6mm Solder Pins: 6800uF, 16V; PCB_Layout: Complies with Manufacturer's Recommendation.; DrillSize: Nominal, Complies with Manufacturer's Recommendation.; Published: 19-Mar-2004; DatasheetDocument: 26-Feb-2002; PackageReference: CAPPRS10-22X40; Publisher: Altium Limited; ComponentLink1Description: Manufacturer Link; ComponentLink1URL: http://www.vishay.com/; ComponentLink2Description: Datasheet; ComponentLink2URL: http://www.vishay.com/docs/25138/eyc.pdf; Value: 6800uF
footprint CAPPRS10-22X40 (Capacitor, Electrolytic, Radial, Snap-In Pins; Body 22 x 40 mm (Dia.xH typ); Pin Spacing 10 mm (typ))
simulation model CAP (Capacitor)
signal-integrity model EYC07LB468D02
pins: 1, 2
1 alternate drawing of the same symbol

## EYC07LB510C02
designator C?
Aluminum Electrolytic Capacitor, Power Capacitor Style EYC, Snap-in 6mm Solder Pins: 10000uF, 10V; PCB_Layout: Complies with Manufacturer's Recommendation.; DrillSize: Nominal, Complies with Manufacturer's Recommendation.; Published: 19-Mar-2004; DatasheetDocument: 26-Feb-2002; PackageReference: CAPPRS10-22X40; Publisher: Altium Limited; ComponentLink1Description: Manufacturer Link; ComponentLink1URL: http://www.vishay.com/; ComponentLink2Description: Datasheet; ComponentLink2URL: http://www.vishay.com/docs/25138/eyc.pdf; Value: 10000uF
footprint CAPPRS10-22X40 (Capacitor, Electrolytic, Radial, Snap-In Pins; Body 22 x 40 mm (Dia.xH typ); Pin Spacing 10 mm (typ))
simulation model CAP (Capacitor)
signal-integrity model EYC07LB510C02
pins: 1, 2
1 alternate drawing of the same symbol

## EYC07LU256P02
designator C?
Aluminum Electrolytic Capacitor, Power Capacitor Style EYC, Snap-in 6mm Solder Pins: 56uF, 450V; PCB_Layout: Complies with Manufacturer's Recommendation.; DrillSize: Nominal, Complies with Manufacturer's Recommendation.; Published: 19-Mar-2004; DatasheetDocument: 26-Feb-2002; PackageReference: CAPPRS10-22X25; Publisher: Altium Limited; ComponentLink1Description: Manufacturer Link; ComponentLink1URL: http://www.vishay.com/; ComponentLink2Description: Datasheet; ComponentLink2URL: http://www.vishay.com/docs/25138/eyc.pdf; Value: 56uF
footprint CAPPRS10-22X25 (Capacitor, Electrolytic, Radial, Snap-In Pins; Body 22 x 25 mm (Dia.xH typ); Pin Spacing 10 mm (typ))
simulation model CAP (Capacitor)
signal-integrity model EYC07LU256P02
pins: 1, 2
1 alternate drawing of the same symbol

## EYC07LU268X02
designator C?
Aluminum Electrolytic Capacitor, Power Capacitor Style EYC, Snap-in 6mm Solder Pins: 68uF, 400V; PCB_Layout: Complies with Manufacturer's Recommendation.; DrillSize: Nominal, Complies with Manufacturer's Recommendation.; Published: 19-Mar-2004; DatasheetDocument: 26-Feb-2002; PackageReference: CAPPRS10-22X25; Publisher: Altium Limited; ComponentLink1Description: Manufacturer Link; ComponentLink1URL: http://www.vishay.com/; ComponentLink2Description: Datasheet; ComponentLink2URL: http://www.vishay.com/docs/25138/eyc.pdf; Value: 68uF
footprint CAPPRS10-22X25 (Capacitor, Electrolytic, Radial, Snap-In Pins; Body 22 x 25 mm (Dia.xH typ); Pin Spacing 10 mm (typ))
simulation model CAP (Capacitor)
signal-integrity model EYC07LU268X02
pins: 1, 2
1 alternate drawing of the same symbol

## EYC07LU422E02
designator C?
Aluminum Electrolytic Capacitor, Power Capacitor Style EYC, Snap-in 6mm Solder Pins: 2200uF, 25V; PCB_Layout: Complies with Manufacturer's Recommendation.; DrillSize: Nominal, Complies with Manufacturer's Recommendation.; Published: 19-Mar-2004; DatasheetDocument: 26-Feb-2002; PackageReference: CAPPRS10-22X25; Publisher: Altium Limited; ComponentLink1Description: Manufacturer Link; ComponentLink1URL: http://www.vishay.com/; ComponentLink2Description: Datasheet; ComponentLink2URL: http://www.vishay.com/docs/25138/eyc.pdf; Value: 2200uF
footprint CAPPRS10-22X25 (Capacitor, Electrolytic, Radial, Snap-In Pins; Body 22 x 25 mm (Dia.xH typ); Pin Spacing 10 mm (typ))
simulation model CAP (Capacitor)
signal-integrity model EYC07LU422E02
pins: 1, 2
1 alternate drawing of the same symbol

## EYC07LU433D02
designator C?
Aluminum Electrolytic Capacitor, Power Capacitor Style EYC, Snap-in 6mm Solder Pins: 3300uF, 16V; PCB_Layout: Complies with Manufacturer's Recommendation.; DrillSize: Nominal, Complies with Manufacturer's Recommendation.; Published: 19-Mar-2004; DatasheetDocument: 26-Feb-2002; PackageReference: CAPPRS10-22X25; Publisher: Altium Limited; ComponentLink1Description: Manufacturer Link; ComponentLink1URL: http://www.vishay.com/; ComponentLink2Description: Datasheet; ComponentLink2URL: http://www.vishay.com/docs/25138/eyc.pdf; Value: 3300uF
footprint CAPPRS10-22X25 (Capacitor, Electrolytic, Radial, Snap-In Pins; Body 22 x 25 mm (Dia.xH typ); Pin Spacing 10 mm (typ))
simulation model CAP (Capacitor)
signal-integrity model EYC07LU433D02
pins: 1, 2
1 alternate drawing of the same symbol

## EYC07LU447C02
designator C?
Aluminum Electrolytic Capacitor, Power Capacitor Style EYC, Snap-in 6mm Solder Pins: 4700uF, 10V; PCB_Layout: Complies with Manufacturer's Recommendation.; DrillSize: Nominal, Complies with Manufacturer's Recommendation.; Published: 19-Mar-2004; DatasheetDocument: 26-Feb-2002; PackageReference: CAPPRS10-22X25; Publisher: Altium Limited; ComponentLink1Description: Manufacturer Link; ComponentLink1URL: http://www.vishay.com/; ComponentLink2Description: Datasheet; ComponentLink2URL: http://www.vishay.com/docs/25138/eyc.pdf; Value: 4700uF
footprint CAPPRS10-22X25 (Capacitor, Electrolytic, Radial, Snap-In Pins; Body 22 x 25 mm (Dia.xH typ); Pin Spacing 10 mm (typ))
simulation model CAP (Capacitor)
signal-integrity model EYC07LU447C02
pins: 1, 2
1 alternate drawing of the same symbol

## EYC07LV268P02
designator C?
Aluminum Electrolytic Capacitor, Power Capacitor Style EYC, Snap-in 6mm Solder Pins: 68uF, 450V; PCB_Layout: Complies with Manufacturer's Recommendation.; DrillSize: Nominal, Complies with Manufacturer's Recommendation.; Published: 19-Mar-2004; DatasheetDocument: 26-Feb-2002; PackageReference: CAPPRS10-22X30; Publisher: Altium Limited; ComponentLink1Description: Manufacturer Link; ComponentLink1URL: http://www.vishay.com/; ComponentLink2Description: Datasheet; ComponentLink2URL: http://www.vishay.com/docs/25138/eyc.pdf; Value: 68uF
footprint CAPPRS10-22X30 (Capacitor, Electrolytic, Radial, Snap-In Pins; Body 22 x 30 mm (Dia.xH typ); Pin Spacing 10 mm (typ))
simulation model CAP (Capacitor)
signal-integrity model EYC07LV268P02
pins: 1, 2
1 alternate drawing of the same symbol

## EYC07LV282X02
designator C?
Aluminum Electrolytic Capacitor, Power Capacitor Style EYC, Snap-in 6mm Solder Pins: 82uF, 400V; PCB_Layout: Complies with Manufacturer's Recommendation.; DrillSize: Nominal, Complies with Manufacturer's Recommendation.; Published: 19-Mar-2004; DatasheetDocument: 26-Feb-2002; PackageReference: CAPPRS10-22X30; Publisher: Altium Limited; ComponentLink1Description: Manufacturer Link; ComponentLink1URL: http://www.vishay.com/; ComponentLink2Description: Datasheet; ComponentLink2URL: http://www.vishay.com/docs/25138/eyc.pdf; Value: 82uF
footprint CAPPRS10-22X30 (Capacitor, Electrolytic, Radial, Snap-In Pins; Body 22 x 30 mm (Dia.xH typ); Pin Spacing 10 mm (typ))
simulation model CAP (Capacitor)
signal-integrity model EYC07LV282X02
pins: 1, 2
1 alternate drawing of the same symbol

## EYC07LV322N02
designator C?
Aluminum Electrolytic Capacitor, Power Capacitor Style EYC, Snap-in 6mm Solder Pins: 220uF, 250V; PCB_Layout: Complies with Manufacturer's Recommendation.; DrillSize: Nominal, Complies with Manufacturer's Recommendation.; Published: 19-Mar-2004; DatasheetDocument: 26-Feb-2002; PackageReference: CAPPRS10-22X30; Publisher: Altium Limited; ComponentLink1Description: Manufacturer Link; ComponentLink1URL: http://www.vishay.com/; ComponentLink2Description: Datasheet; ComponentLink2URL: http://www.vishay.com/docs/25138/eyc.pdf; Value: 220uF
footprint CAPPRS10-22X30 (Capacitor, Electrolytic, Radial, Snap-In Pins; Body 22 x 30 mm (Dia.xH typ); Pin Spacing 10 mm (typ))
simulation model CAP (Capacitor)
signal-integrity model EYC07LV322N02
pins: 1, 2
1 alternate drawing of the same symbol

## EYC07LV433E02
designator C?
Aluminum Electrolytic Capacitor, Power Capacitor Style EYC, Snap-in 6mm Solder Pins: 3300uF, 25V; PCB_Layout: Complies with Manufacturer's Recommendation.; DrillSize: Nominal, Complies with Manufacturer's Recommendation.; Published: 19-Mar-2004; DatasheetDocument: 26-Feb-2002; PackageReference: CAPPRS10-22X30; Publisher: Altium Limited; ComponentLink1Description: Manufacturer Link; ComponentLink1URL: http://www.vishay.com/; ComponentLink2Description: Datasheet; ComponentLink2URL: http://www.vishay.com/docs/25138/eyc.pdf; Value: 3300uF
footprint CAPPRS10-22X30 (Capacitor, Electrolytic, Radial, Snap-In Pins; Body 22 x 30 mm (Dia.xH typ); Pin Spacing 10 mm (typ))
simulation model CAP (Capacitor)
signal-integrity model EYC07LV433E02
pins: 1, 2
1 alternate drawing of the same symbol

## EYC07LV447D02
designator C?
Aluminum Electrolytic Capacitor, Power Capacitor Style EYC, Snap-in 6mm Solder Pins: 4700uF, 16V; PCB_Layout: Complies with Manufacturer's Recommendation.; DrillSize: Nominal, Complies with Manufacturer's Recommendation.; Published: 19-Mar-2004; DatasheetDocument: 26-Feb-2002; PackageReference: CAPPRS10-22X30; Publisher: Altium Limited; ComponentLink1Description: Manufacturer Link; ComponentLink1URL: http://www.vishay.com/; ComponentLink2Description: Datasheet; ComponentLink2URL: http://www.vishay.com/docs/25138/eyc.pdf; Value: 4700uF
footprint CAPPRS10-22X30 (Capacitor, Electrolytic, Radial, Snap-In Pins; Body 22 x 30 mm (Dia.xH typ); Pin Spacing 10 mm (typ))
simulation model CAP (Capacitor)
signal-integrity model EYC07LV447D02
pins: 1, 2
1 alternate drawing of the same symbol

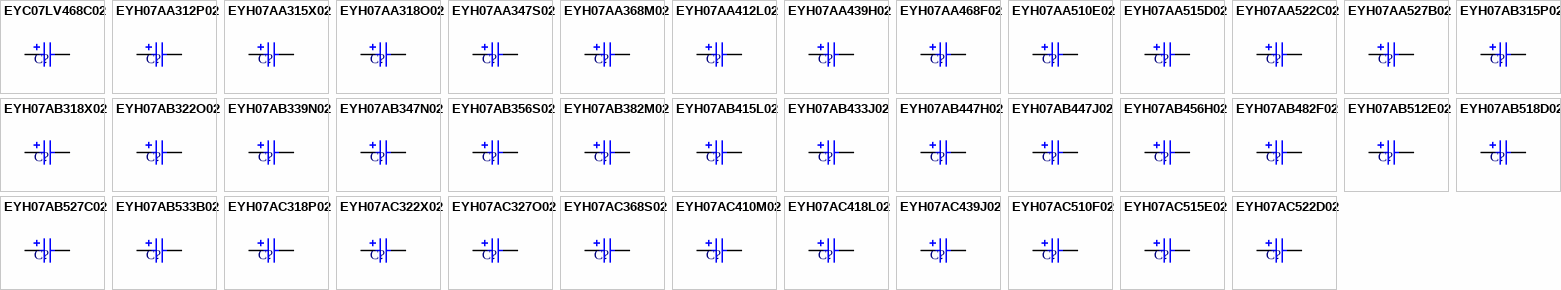
[diagram p3: symbols EYC07LV468C02 to EYH07AC522D02]